# Altium footprint library SMD-8_9.0mm.PcbLib: 1 footprints
Each footprint in its own frame and in the unit in brackets; x right, y up, seen from the top. Pads: shape width x height; smd on the part's side, far side on the other; paste and mask are expansions set on the pad; w line width, h text height; cw(c..) or ccw(c..) is an arc to the next point about the centre after c.
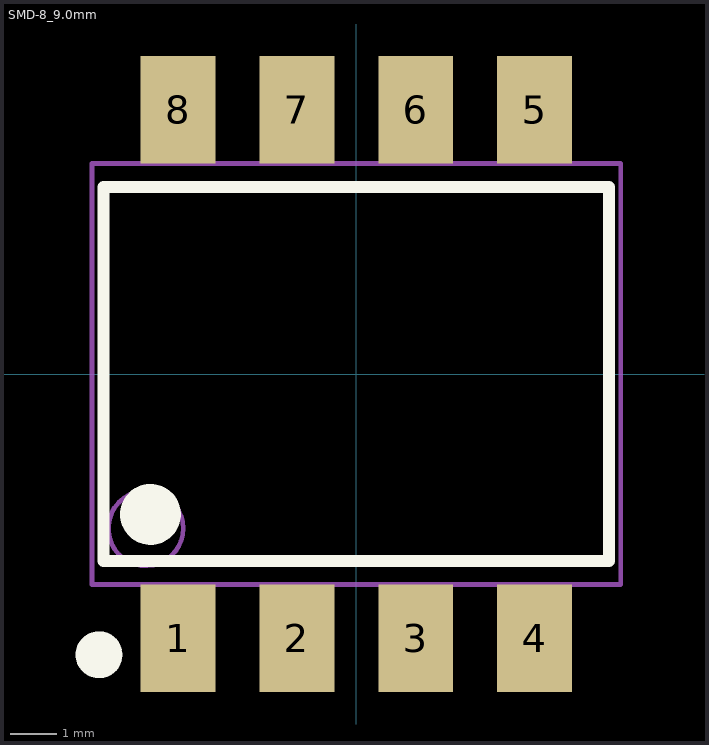
[diagram p0: the footprint, top view; thin cyan lines are the x and y axes]

## SMD-8_9.0mm [mm]
pads (8):
  rect 1.6x2.3 smd: 1(-3.81,-5.65) 2(-1.27,-5.65) 3(1.27,-5.65) 4(3.81,-5.65) 5(3.81,5.65) 6(1.27,5.65) 7(-1.27,5.65) 8(-3.81,5.65)
Top Overlay:
  circle w0.5: c-5.5,-6 r0.25
  circle w0.7: c-4.4,-3 r0.3
  lines w0.254: -5.4,-4 5.4,-4 5.4,4 -5.4,4 -5.4,-4
Mechanical 13:
  circle w0.1: c-4.5,-3.3 r0.8
  lines w0.1: -5.65,-4.5 -5.65,4.5 5.65,4.5 5.65,-4.5 -5.65,-4.5